# Altium integrated library Diode - TVS.IntLib: 371 symbols (part 3 of 6)
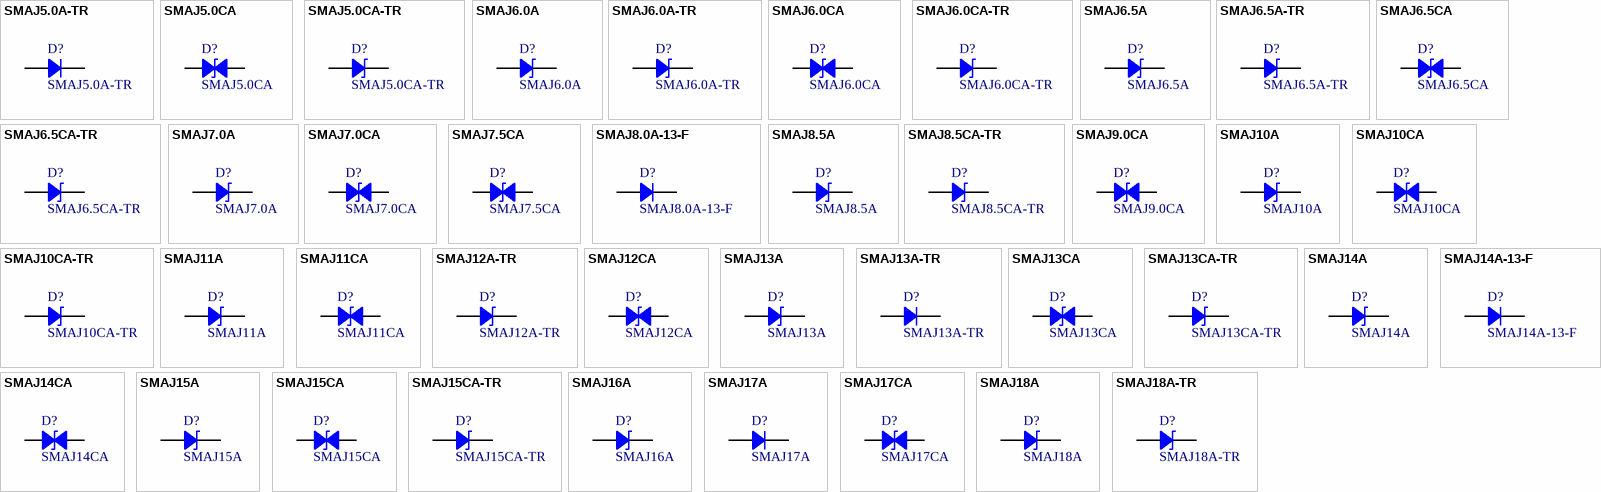
[diagram p11: symbols SMAJ5.0A-TR to SMAJ18A-TR]

## SMAJ5.0CA
designator D?
TVS DIODE 5VWM 9.2VC DO214AC; Manufacturer: Bourns Inc.; Type: Zener; Bidirectional Channels: 1; Power - Peak Pulse: 400W; Current - Peak Pulse: 43.5A; Voltage (Clamping): 9.2V; Voltage (Breakdown): 6.4V; Voltage (Reverse Standoff): 5V; Part Number: SMAJ5.0CA; PartId: 14842; Supplier 1: Digi-Key; Supplier Part Number 1: SMAJ5.0CABTR-ND; ComponentLink1Description: Datasheet; ComponentLink1URL: http://www.bourns.com/docs/Product-Datasheets/SMAJ.pdf; ComponentLink2Description: Digi-Key Listing; ComponentLink2URL: https://www.digikey.com/product-detail/en/bourns-inc/SMAJ5.0CA/SMAJ5.0CABTR-ND/2254237; Operating Temperature: -55C ~ 150C (TJ); Price: 0.0992; Device Package: DO-214AC, SMA
footprint Bourns DO214AC SMA
pins: 1, 2

## SMAJ5.0CA-TR
designator D?
TVS DIODE 5VWM 13.4VC SMA; Manufacturer: STMicroelectronics; Type: Zener; Bidirectional Channels: 1; Power - Peak Pulse: 400W; Current - Peak Pulse: 174A (8/20us); Voltage (Clamping): 13.4V; Voltage (Breakdown): 6.4V; Voltage (Reverse Standoff): 5V; Part Number: SMAJ5.0CA-TR; PartId: 14948; Supplier 1: Digi-Key; Supplier Part Number 1: 497-6508-2-ND; ComponentLink1Description: Datasheet; ComponentLink1URL: http://www2.st.com/content/ccc/resource/technical/document/datasheet/ff/c0/80/cc/19/4c/45/af/CD00001333.pdf/files/CD00001333.pdf/_jcr_content/translations/en.CD00001333.pdf; ComponentLink2Description: Digi-Key Listing; ComponentLink2URL: https://www.digikey.com/product-detail/en/stmicroelectronics/SMAJ5.0CA-TR/497-6508-2-ND/1039122; Operating Temperature: -55C ~ 150C (TJ); Price: 0.1003; Device Package: DO-214AC, SMA
footprint ST DO214AC SMA
pins: 1, 2

## SMAJ6.0A
designator D?
TVS DIODE 6VWM 10.3VC DO214AC; Manufacturer: Bourns Inc.; Type: Zener; Unidirectional Channels: 1; Power - Peak Pulse: 400W; Current - Peak Pulse: 38.8A; Voltage (Clamping): 10.3V; Voltage (Breakdown): 6.67V; Voltage (Reverse Standoff): 6V; Part Number: SMAJ6.0A; PartId: 14896; Supplier 1: Digi-Key; Supplier Part Number 1: SMAJ6.0ABTR-ND; ComponentLink1Description: Datasheet; ComponentLink1URL: http://www.bourns.com/docs/Product-Datasheets/SMAJ.pdf; ComponentLink2Description: Digi-Key Listing; ComponentLink2URL: https://www.digikey.com/product-detail/en/bourns-inc/SMAJ6.0A/SMAJ6.0ABTR-ND/2254214; Operating Temperature: -55C ~ 150C (TJ); Price: 0.0928; Device Package: DO-214AC, SMA
footprint Bourns DO214AC SMA
pins: 1, 2

## SMAJ6.0A-TR
designator D?
TVS DIODE 6VWM 13.7VC SMA; Manufacturer: STMicroelectronics; Type: Zener; Unidirectional Channels: 1; Power - Peak Pulse: 400W; Current - Peak Pulse: 170A (8/20us); Voltage (Clamping): 13.7V; Voltage (Breakdown): 6.7V; Voltage (Reverse Standoff): 6V; Part Number: SMAJ6.0A-TR; PartId: 14910; Supplier 1: Digi-Key; Supplier Part Number 1: 497-7894-2-ND; ComponentLink1Description: Datasheet; ComponentLink1URL: http://www2.st.com/content/ccc/resource/technical/document/datasheet/ff/c0/80/cc/19/4c/45/af/CD00001333.pdf/files/CD00001333.pdf/_jcr_content/translations/en.CD00001333.pdf; ComponentLink2Description: Digi-Key Listing; ComponentLink2URL: https://www.digikey.com/product-detail/en/stmicroelectronics/SMAJ6.0A-TR/497-7894-2-ND/1039123; Operating Temperature: -55C ~ 150C (TJ); Price: 0.0782; Device Package: DO-214AC, SMA
footprint ST DO214AC SMA
pins: 1, 2

## SMAJ6.0CA
designator D?
TVS DIODE 6VWM 10.3VC DO214AC; Manufacturer: Bourns Inc.; Type: Zener; Bidirectional Channels: 1; Power - Peak Pulse: 400W; Current - Peak Pulse: 38.8A; Voltage (Clamping): 10.3V; Voltage (Breakdown): 6.67V; Voltage (Reverse Standoff): 6V; Part Number: SMAJ6.0CA; PartId: 14837; Supplier 1: Digi-Key; Supplier Part Number 1: SMAJ6.0CABTR-ND; ComponentLink1Description: Datasheet; ComponentLink1URL: http://www.bourns.com/docs/Product-Datasheets/SMAJ.pdf; ComponentLink2Description: Digi-Key Listing; ComponentLink2URL: https://www.digikey.com/product-detail/en/bourns-inc/SMAJ6.0CA/SMAJ6.0CABTR-ND/2254666; Operating Temperature: -55C ~ 150C (TJ); Price: 0.0992; Device Package: DO-214AC, SMA
footprint Bourns DO214AC SMA
pins: 1, 2

## SMAJ6.0CA-TR
designator D?
TVS DIODE 6VWM 13.7VC SMA; Manufacturer: STMicroelectronics; Type: Zener; Bidirectional Channels: 1; Power - Peak Pulse: 400W; Current - Peak Pulse: 170A (8/20us); Voltage (Clamping): 13.7V; Voltage (Breakdown): 6.7V; Voltage (Reverse Standoff): 6V; Part Number: SMAJ6.0CA-TR; PartId: 14939; Supplier 1: Digi-Key; Supplier Part Number 1: 497-6510-2-ND; ComponentLink1Description: Datasheet; ComponentLink1URL: http://www2.st.com/content/ccc/resource/technical/document/datasheet/ff/c0/80/cc/19/4c/45/af/CD00001333.pdf/files/CD00001333.pdf/_jcr_content/translations/en.CD00001333.pdf; ComponentLink2Description: Digi-Key Listing; ComponentLink2URL: https://www.digikey.com/product-detail/en/stmicroelectronics/SMAJ6.0CA-TR/497-6510-2-ND/1039124; Operating Temperature: -55C ~ 150C (TJ); Price: 0.0833; Device Package: DO-214AC, SMA
footprint ST DO214AC SMA
pins: 1, 2

## SMAJ6.5A
designator D?
TVS DIODE 6.5VWM 11.2VC DO214AC; Manufacturer: Bourns Inc.; Type: Zener; Unidirectional Channels: 1; Power - Peak Pulse: 400W; Current - Peak Pulse: 35.7A; Voltage (Clamping): 11.2V; Voltage (Breakdown): 7.22V; Voltage (Reverse Standoff): 6.5V; Part Number: SMAJ6.5A; PartId: 14883; Supplier 1: Digi-Key; Supplier Part Number 1: SMAJ6.5ABTR-ND; ComponentLink1Description: Datasheet; ComponentLink1URL: http://www.bourns.com/docs/Product-Datasheets/SMAJ.pdf; ComponentLink2Description: Digi-Key Listing; ComponentLink2URL: https://www.digikey.com/product-detail/en/bourns-inc/SMAJ6.5A/SMAJ6.5ABTR-ND/2254354; Operating Temperature: -55C ~ 150C (TJ); Price: 0.0928; Device Package: DO-214AC, SMA
footprint Bourns DO214AC SMA
pins: 1, 2

## SMAJ6.5A-TR
designator D?
TVS DIODE 6.5VWM 14.5VC SMA; Manufacturer: STMicroelectronics; Type: Zener; Unidirectional Channels: 1; Power - Peak Pulse: 400W; Current - Peak Pulse: 160A (8/20us); Voltage (Clamping): 14.5V; Voltage (Breakdown): 7.2V; Voltage (Reverse Standoff): 6.5V; Part Number: SMAJ6.5A-TR; PartId: 14915; Supplier 1: Digi-Key; Supplier Part Number 1: 497-7895-2-ND; ComponentLink1Description: Datasheet; ComponentLink1URL: http://www2.st.com/content/ccc/resource/technical/document/datasheet/ff/c0/80/cc/19/4c/45/af/CD00001333.pdf/files/CD00001333.pdf/_jcr_content/translations/en.CD00001333.pdf; ComponentLink2Description: Digi-Key Listing; ComponentLink2URL: https://www.digikey.com/product-detail/en/stmicroelectronics/SMAJ6.5A-TR/497-7895-2-ND/1039125; Operating Temperature: -55C ~ 150C (TJ); Price: 0.0782; Device Package: DO-214AC, SMA
footprint ST DO214AC SMA
pins: 1, 2

## SMAJ6.5CA
designator D?
TVS DIODE 6.5VWM 11.2VC DO214AC; Manufacturer: Bourns Inc.; Type: Zener; Bidirectional Channels: 1; Power - Peak Pulse: 400W; Current - Peak Pulse: 35.7A; Voltage (Clamping): 11.2V; Voltage (Breakdown): 7.22V; Voltage (Reverse Standoff): 6.5V; Part Number: SMAJ6.5CA; PartId: 14851; Supplier 1: Digi-Key; Supplier Part Number 1: SMAJ6.5CABTR-ND; ComponentLink1Description: Datasheet; ComponentLink1URL: http://www.bourns.com/docs/Product-Datasheets/SMAJ.pdf; ComponentLink2Description: Digi-Key Listing; ComponentLink2URL: https://www.digikey.com/product-detail/en/bourns-inc/SMAJ6.5CA/SMAJ6.5CABTR-ND/2254661; Operating Temperature: -55C ~ 150C (TJ); Price: 0.0992; Device Package: DO-214AC, SMA
footprint Bourns DO214AC SMA
pins: 1, 2

## SMAJ6.5CA-TR
designator D?
TVS DIODE 6.5VWM 14.5VC SMA; Manufacturer: STMicroelectronics; Type: Zener; Bidirectional Channels: 1; Power - Peak Pulse: 400W; Current - Peak Pulse: 160A (8/20us); Voltage (Clamping): 14.5V; Voltage (Breakdown): 7.2V; Voltage (Reverse Standoff): 6.5V; Part Number: SMAJ6.5CA-TR; PartId: 14941; Supplier 1: Digi-Key; Supplier Part Number 1: 497-7896-2-ND; ComponentLink1Description: Datasheet; ComponentLink1URL: http://www2.st.com/content/ccc/resource/technical/document/datasheet/ff/c0/80/cc/19/4c/45/af/CD00001333.pdf/files/CD00001333.pdf/_jcr_content/translations/en.CD00001333.pdf; ComponentLink2Description: Digi-Key Listing; ComponentLink2URL: https://www.digikey.com/product-detail/en/stmicroelectronics/SMAJ6.5CA-TR/497-7896-2-ND/1039126; Operating Temperature: -55C ~ 150C (TJ); Price: 0.0833; Device Package: DO-214AC, SMA
footprint ST DO214AC SMA
pins: 1, 2

## SMAJ7.0A
designator D?
TVS DIODE 7VWM 12VC DO214AC; Manufacturer: Bourns Inc.; Type: Zener; Unidirectional Channels: 1; Power - Peak Pulse: 400W; Current - Peak Pulse: 33.3A; Voltage (Clamping): 12V; Voltage (Breakdown): 7.78V; Voltage (Reverse Standoff): 7V; Part Number: SMAJ7.0A; PartId: 14882; Supplier 1: Digi-Key; Supplier Part Number 1: SMAJ7.0ABTR-ND; ComponentLink1Description: Datasheet; ComponentLink1URL: http://www.bourns.com/docs/Product-Datasheets/SMAJ.pdf; ComponentLink2Description: Digi-Key Listing; ComponentLink2URL: https://www.digikey.com/product-detail/en/bourns-inc/SMAJ7.0A/SMAJ7.0ABTR-ND/2254658; Operating Temperature: -55C ~ 150C (TJ); Price: 0.0928; Device Package: DO-214AC, SMA
footprint Bourns DO214AC SMA
pins: 1, 2

## SMAJ7.0CA
designator D?
TVS DIODE 7VWM 12VC DO214AC; Manufacturer: Bourns Inc.; Type: Zener; Bidirectional Channels: 1; Power - Peak Pulse: 400W; Current - Peak Pulse: 33.3A; Voltage (Clamping): 12V; Voltage (Breakdown): 7.78V; Voltage (Reverse Standoff): 7V; Part Number: SMAJ7.0CA; PartId: 14863; Supplier 1: Digi-Key; Supplier Part Number 1: SMAJ7.0CABTR-ND; ComponentLink1Description: Datasheet; ComponentLink1URL: http://www.bourns.com/docs/Product-Datasheets/SMAJ.pdf; ComponentLink2Description: Digi-Key Listing; ComponentLink2URL: https://www.digikey.com/product-detail/en/bourns-inc/SMAJ7.0CA/SMAJ7.0CABTR-ND/2254550; Operating Temperature: -55C ~ 150C (TJ); Price: 0.0992; Device Package: DO-214AC, SMA
footprint Bourns DO214AC SMA
pins: 1, 2

## SMAJ7.5CA
designator D?
TVS DIODE 7.5VWM 12.9VC DO214AC; Manufacturer: Bourns Inc.; Type: Zener; Bidirectional Channels: 1; Power - Peak Pulse: 400W; Current - Peak Pulse: 31A; Voltage (Clamping): 12.9V; Voltage (Breakdown): 8.33V; Voltage (Reverse Standoff): 7.5V; Part Number: SMAJ7.5CA; PartId: 14844; Supplier 1: Digi-Key; Supplier Part Number 1: SMAJ7.5CABTR-ND; ComponentLink1Description: Datasheet; ComponentLink1URL: http://www.bourns.com/docs/Product-Datasheets/SMAJ.pdf; ComponentLink2Description: Digi-Key Listing; ComponentLink2URL: https://www.digikey.com/product-detail/en/bourns-inc/SMAJ7.5CA/SMAJ7.5CABTR-ND/2253431; Operating Temperature: -55C ~ 150C (TJ); Price: 0.0992; Device Package: DO-214AC, SMA
footprint Bourns DO214AC SMA
pins: 1, 2

## SMAJ8.0A-13-F
designator D?
TVS DIODE 8VWM 13.6VC SMA; Manufacturer: Diodes Incorporated; Type: Surface Mount; Power - Peak Pulse: 400W; Current - Peak Pulse: 29.4A; Voltage (Clamping): 13.6V; Voltage (Breakdown): 8.89V; Voltage (Reverse Standoff): 8V; Part Number: SMAJ8.0A-13-F; PartId: 7765; Supplier 1: Digi-Key; Supplier Part Number 1: SMAJ8.0A-13-FDITR-ND; ComponentLink1Description: Datasheet; ComponentLink1URL: http://www.diodes.com/_files/datasheets/ds19005.pdf; ComponentLink2Description: Digi-Key Listing; ComponentLink2URL: http://www.digikey.ca/product-detail/en/SMAJ8.0A-13-F/SMAJ8.0A-13-FDITR-ND/814800; Operating Temperature: -55C ~ 150C (TJ); Price: 0.1219; Device Package: DO-214AC, SMA
footprint DO214AC SMA
pins: 1, 2

## SMAJ8.5A
designator D?
TVS DIODE 8.5VWM 14.4VC DO214AC; Manufacturer: Bourns Inc.; Type: Zener; Unidirectional Channels: 1; Power - Peak Pulse: 400W; Current - Peak Pulse: 27.8A; Voltage (Clamping): 14.4V; Voltage (Breakdown): 9.44V; Voltage (Reverse Standoff): 8.5V; Part Number: SMAJ8.5A; PartId: 14906; Supplier 1: Digi-Key; Supplier Part Number 1: SMAJ8.5ABTR-ND; ComponentLink1Description: Datasheet; ComponentLink1URL: http://www.bourns.com/docs/Product-Datasheets/SMAJ.pdf; ComponentLink2Description: Digi-Key Listing; ComponentLink2URL: https://www.digikey.com/product-detail/en/bourns-inc/SMAJ8.5A/SMAJ8.5ABTR-ND/2254543; Operating Temperature: -55C ~ 150C (TJ); Price: 0.0928; Device Package: DO-214AC, SMA
footprint Bourns DO214AC SMA
pins: 1, 2

## SMAJ8.5CA-TR
designator D?
TVS DIODE 8.5VWM 19.5VC SMA; Manufacturer: STMicroelectronics; Type: Zener; Bidirectional Channels: 1; Power - Peak Pulse: 400W; Current - Peak Pulse: 124A (8/20us); Voltage (Clamping): 19.5V; Voltage (Breakdown): 9.4V; Voltage (Reverse Standoff): 8.5V; Part Number: SMAJ8.5CA-TR; PartId: 14943; Supplier 1: Digi-Key; Supplier Part Number 1: 497-15719-2-ND; ComponentLink1Description: Datasheet; ComponentLink1URL: http://www2.st.com/content/ccc/resource/technical/document/datasheet/ff/c0/80/cc/19/4c/45/af/CD00001333.pdf/files/CD00001333.pdf/_jcr_content/translations/en.CD00001333.pdf; ComponentLink2Description: Digi-Key Listing; ComponentLink2URL: https://www.digikey.com/product-detail/en/stmicroelectronics/SMAJ8.5CA-TR/497-15719-2-ND/1039127; Operating Temperature: -55C ~ 150C (TJ); Price: 0.0833; Device Package: DO-214AC, SMA
footprint ST DO214AC SMA
pins: 1, 2

## SMAJ9.0CA
designator D?
TVS DIODE 9VWM 15.4VC DO214AC; Manufacturer: Bourns Inc.; Type: Zener; Bidirectional Channels: 1; Power - Peak Pulse: 400W; Current - Peak Pulse: 26A; Voltage (Clamping): 15.4V; Voltage (Breakdown): 10V; Voltage (Reverse Standoff): 9V; Part Number: SMAJ9.0CA; PartId: 14857; Supplier 1: Digi-Key; Supplier Part Number 1: SMAJ9.0CABTR-ND; ComponentLink1Description: Datasheet; ComponentLink1URL: http://www.bourns.com/docs/Product-Datasheets/SMAJ.pdf; ComponentLink2Description: Digi-Key Listing; ComponentLink2URL: https://www.digikey.com/product-detail/en/bourns-inc/SMAJ9.0CA/SMAJ9.0CABTR-ND/2253432; Operating Temperature: -55C ~ 150C (TJ); Price: 0.0992; Device Package: DO-214AC, SMA
footprint Bourns DO214AC SMA
pins: 1, 2

## SMAJ10A
designator D?
TVS DIODE 10VWM 17VC DO214AC; Manufacturer: Bourns Inc.; Type: Zener; Unidirectional Channels: 1; Power - Peak Pulse: 400W; Current - Peak Pulse: 23.5A; Voltage (Clamping): 17V; Voltage (Breakdown): 11.1V; Voltage (Reverse Standoff): 10V; Part Number: SMAJ10A; PartId: 14890; Supplier 1: Digi-Key; Supplier Part Number 1: SMAJ10ABTR-ND; ComponentLink1Description: Datasheet; ComponentLink1URL: http://www.bourns.com/docs/Product-Datasheets/SMAJ.pdf; ComponentLink2Description: Digi-Key Listing; ComponentLink2URL: https://www.digikey.com/product-detail/en/bourns-inc/SMAJ10A/SMAJ10ABTR-ND/2254675; Operating Temperature: -55C ~ 150C (TJ); Price: 0.0928; Device Package: DO-214AC, SMA
footprint Bourns DO214AC SMA
pins: 1, 2

## SMAJ10CA
designator D?
TVS DIODE 10VWM 17VC DO214AC; Manufacturer: Bourns Inc.; Type: Zener; Bidirectional Channels: 1; Power - Peak Pulse: 400W; Current - Peak Pulse: 23.5A; Voltage (Clamping): 17V; Voltage (Breakdown): 11.1V; Voltage (Reverse Standoff): 10V; Part Number: SMAJ10CA; PartId: 14853; Supplier 1: Digi-Key; Supplier Part Number 1: SMAJ10CABTR-ND; ComponentLink1Description: Datasheet; ComponentLink1URL: http://www.bourns.com/docs/Product-Datasheets/SMAJ.pdf; ComponentLink2Description: Digi-Key Listing; ComponentLink2URL: https://www.digikey.com/product-detail/en/bourns-inc/SMAJ10CA/SMAJ10CABTR-ND/2254677; Operating Temperature: -55C ~ 150C (TJ); Price: 0.0992; Device Package: DO-214AC, SMA
footprint Bourns DO214AC SMA
pins: 1, 2

## SMAJ10CA-TR
designator D?
TVS DIODE 10VWM 21.7VC SMA; Manufacturer: STMicroelectronics; Type: Zener; Bidirectional Channels: 1; Power - Peak Pulse: 400W; Current - Peak Pulse: 106A (8/20us); Voltage (Clamping): 21.7V; Voltage (Breakdown): 11.1V; Voltage (Reverse Standoff): 10V; Part Number: SMAJ10CA-TR; PartId: 14934; Supplier 1: Digi-Key; Supplier Part Number 1: 497-14167-2-ND; ComponentLink1Description: Datasheet; ComponentLink1URL: http://www2.st.com/content/ccc/resource/technical/document/datasheet/ff/c0/80/cc/19/4c/45/af/CD00001333.pdf/files/CD00001333.pdf/_jcr_content/translations/en.CD00001333.pdf; ComponentLink2Description: Digi-Key Listing; ComponentLink2URL: https://www.digikey.com/product-detail/en/stmicroelectronics/SMAJ10CA-TR/497-14167-2-ND/1039100; Operating Temperature: -55C ~ 150C (TJ); Price: 0.0833; Device Package: DO-214AC, SMA
footprint ST DO214AC SMA
pins: 1, 2

## SMAJ11A
designator D?
TVS DIODE 11VWM 18.2VC DO214AC; Manufacturer: Bourns Inc.; Type: Zener; Unidirectional Channels: 1; Power - Peak Pulse: 400W; Current - Peak Pulse: 22A; Voltage (Clamping): 18.2V; Voltage (Breakdown): 12.2V; Voltage (Reverse Standoff): 11V; Part Number: SMAJ11A; PartId: 14878; Supplier 1: Digi-Key; Supplier Part Number 1: SMAJ11ABTR-ND; ComponentLink1Description: Datasheet; ComponentLink1URL: http://www.bourns.com/docs/Product-Datasheets/SMAJ.pdf; ComponentLink2Description: Digi-Key Listing; ComponentLink2URL: https://www.digikey.com/product-detail/en/bourns-inc/SMAJ11A/SMAJ11ABTR-ND/2254678; Operating Temperature: -55C ~ 150C (TJ); Price: 0.0928; Device Package: DO-214AC, SMA
footprint Bourns DO214AC SMA
pins: 1, 2

## SMAJ11CA
designator D?
TVS DIODE 11VWM 18.2VC DO214AC; Manufacturer: Bourns Inc.; Type: Zener; Bidirectional Channels: 1; Power - Peak Pulse: 400W; Current - Peak Pulse: 22A; Voltage (Clamping): 18.2V; Voltage (Breakdown): 12.2V; Voltage (Reverse Standoff): 11V; Part Number: SMAJ11CA; PartId: 14865; Supplier 1: Digi-Key; Supplier Part Number 1: SMAJ11CABTR-ND; ComponentLink1Description: Datasheet; ComponentLink1URL: http://www.bourns.com/docs/Product-Datasheets/SMAJ.pdf; ComponentLink2Description: Digi-Key Listing; ComponentLink2URL: https://www.digikey.com/product-detail/en/bourns-inc/SMAJ11CA/SMAJ11CABTR-ND/2254681; Operating Temperature: -55C ~ 150C (TJ); Price: 0.0992; Device Package: DO-214AC, SMA
footprint Bourns DO214AC SMA
pins: 1, 2

## SMAJ12A-TR
designator D?
TVS DIODE 12VWM 25.3VC SMA; Manufacturer: STMicroelectronics; Type: Zener; Unidirectional Channels: 1; Power - Peak Pulse: 400W; Current - Peak Pulse: 91A (8/20us); Voltage (Clamping): 25.3V; Voltage (Breakdown): 13.3V; Voltage (Reverse Standoff): 12V; Part Number: SMAJ12A-TR; PartId: 14909; Supplier 1: Digi-Key; Supplier Part Number 1: 497-6503-2-ND; ComponentLink1Description: Datasheet; ComponentLink1URL: http://www2.st.com/content/ccc/resource/technical/document/datasheet/ff/c0/80/cc/19/4c/45/af/CD00001333.pdf/files/CD00001333.pdf/_jcr_content/translations/en.CD00001333.pdf; ComponentLink2Description: Digi-Key Listing; ComponentLink2URL: https://www.digikey.com/product-detail/en/stmicroelectronics/SMAJ12A-TR/497-6503-2-ND/1039101; Operating Temperature: -55C ~ 150C (TJ); Price: 0.0782; Device Package: DO-214AC, SMA
footprint ST DO214AC SMA
pins: 1, 2

## SMAJ12CA
designator D?
TVS DIODE 12VWM 19.9VC DO214AC; Manufacturer: Bourns Inc.; Type: Zener; Bidirectional Channels: 1; Power - Peak Pulse: 400W; Current - Peak Pulse: 20.1A; Voltage (Clamping): 19.9V; Voltage (Breakdown): 13.3V; Voltage (Reverse Standoff): 12V; Part Number: SMAJ12CA; PartId: 14843; Supplier 1: Digi-Key; Supplier Part Number 1: SMAJ12CABTR-ND; ComponentLink1Description: Datasheet; ComponentLink1URL: http://www.bourns.com/docs/Product-Datasheets/SMAJ.pdf; ComponentLink2Description: Digi-Key Listing; ComponentLink2URL: https://www.digikey.com/product-detail/en/bourns-inc/SMAJ12CA/SMAJ12CABTR-ND/2254385; Operating Temperature: -55C ~ 150C (TJ); Price: 0.0992; Device Package: DO-214AC, SMA
footprint Bourns DO214AC SMA
pins: 1, 2

## SMAJ13A
designator D?
TVS DIODE 13VWM 21.5VC DO214AC; Manufacturer: Bourns Inc.; Type: Zener; Unidirectional Channels: 1; Power - Peak Pulse: 400W; Current - Peak Pulse: 18.6A; Voltage (Clamping): 21.5V; Voltage (Breakdown): 14.4V; Voltage (Reverse Standoff): 13V; Part Number: SMAJ13A; PartId: 14891; Supplier 1: Digi-Key; Supplier Part Number 1: SMAJ13ABTR-ND; ComponentLink1Description: Datasheet; ComponentLink1URL: http://www.bourns.com/docs/Product-Datasheets/SMAJ.pdf; ComponentLink2Description: Digi-Key Listing; ComponentLink2URL: https://www.digikey.com/product-detail/en/bourns-inc/SMAJ13A/SMAJ13ABTR-ND/2254693; Operating Temperature: -55C ~ 150C (TJ); Price: 0.0928; Device Package: DO-214AC, SMA
footprint Bourns DO214AC SMA
pins: 1, 2

## SMAJ13A-TR
designator D?
TVS DIODE 13VWM 27.2VC SMA; Manufacturer: STMicroelectronics; Type: Surface Mount; Power - Peak Pulse: 400W; Current - Peak Pulse: 85A (8/20us); Voltage (Clamping): 27.2V; Voltage (Breakdown): 14.4V; Voltage (Reverse Standoff): 13V; Part Number: SMAJ13A-TR; PartId: 7769; Supplier 1: Digi-Key; Supplier Part Number 1: 497-12776-2-ND; ComponentLink1Description: Datasheet; ComponentLink1URL: http://www.st.com/web/en/resource/technical/document/datasheet/CD00001333.pdf; ComponentLink2Description: Digi-Key Listing; ComponentLink2URL: http://www.digikey.ca/product-detail/en/SMAJ13A-TR/497-12776-2-ND/1039103; Operating Temperature: -55C ~ 150C (TJ); Price: 0.1146; Device Package: DO-214AC, SMA
footprint DO214AC SMA
pins: 1, 2

## SMAJ13CA
designator D?
TVS DIODE 13VWM 21.5VC DO214AC; Manufacturer: Bourns Inc.; Type: Zener; Bidirectional Channels: 1; Power - Peak Pulse: 400W; Current - Peak Pulse: 18.6A; Voltage (Clamping): 21.5V; Voltage (Breakdown): 14.4V; Voltage (Reverse Standoff): 13V; Part Number: SMAJ13CA; PartId: 14864; Supplier 1: Digi-Key; Supplier Part Number 1: SMAJ13CABTR-ND; ComponentLink1Description: Datasheet; ComponentLink1URL: http://www.bourns.com/docs/Product-Datasheets/SMAJ.pdf; ComponentLink2Description: Digi-Key Listing; ComponentLink2URL: https://www.digikey.com/product-detail/en/bourns-inc/SMAJ13CA/SMAJ13CABTR-ND/2254381; Operating Temperature: -55C ~ 150C (TJ); Price: 0.0992; Device Package: DO-214AC, SMA
footprint Bourns DO214AC SMA
pins: 1, 2

## SMAJ13CA-TR
designator D?
TVS DIODE 13VWM 27.2VC SMA; Manufacturer: STMicroelectronics; Type: Zener; Bidirectional Channels: 1; Power - Peak Pulse: 400W; Current - Peak Pulse: 85A (8/20us); Voltage (Clamping): 27.2V; Voltage (Breakdown): 14.4V; Voltage (Reverse Standoff): 13V; Part Number: SMAJ13CA-TR; PartId: 14936; Supplier 1: Digi-Key; Supplier Part Number 1: 497-7890-2-ND; ComponentLink1Description: Datasheet; ComponentLink1URL: http://www2.st.com/content/ccc/resource/technical/document/datasheet/ff/c0/80/cc/19/4c/45/af/CD00001333.pdf/files/CD00001333.pdf/_jcr_content/translations/en.CD00001333.pdf; ComponentLink2Description: Digi-Key Listing; ComponentLink2URL: https://www.digikey.com/product-detail/en/stmicroelectronics/SMAJ13CA-TR/497-7890-2-ND/1039104; Operating Temperature: -55C ~ 150C (TJ); Price: 0.0833; Device Package: DO-214AC, SMA
footprint ST DO214AC SMA
pins: 1, 2

## SMAJ14A
designator D?
TVS DIODE 14VWM 23.2VC DO214AC; Manufacturer: Bourns Inc.; Type: Zener; Unidirectional Channels: 1; Power - Peak Pulse: 400W; Current - Peak Pulse: 17.2A; Voltage (Clamping): 23.2V; Voltage (Breakdown): 15.6V; Voltage (Reverse Standoff): 14V; Part Number: SMAJ14A; PartId: 14876; Supplier 1: Digi-Key; Supplier Part Number 1: SMAJ14ABTR-ND; ComponentLink1Description: Datasheet; ComponentLink1URL: http://www.bourns.com/docs/Product-Datasheets/SMAJ.pdf; ComponentLink2Description: Digi-Key Listing; ComponentLink2URL: https://www.digikey.com/product-detail/en/bourns-inc/SMAJ14A/SMAJ14ABTR-ND/2254680; Operating Temperature: -55C ~ 150C (TJ); Price: 0.0928; Device Package: DO-214AC, SMA
footprint Bourns DO214AC SMA
pins: 1, 2

## SMAJ14A-13-F
designator D?
TVS DIODE 14VWM 23.2VC SMA; Manufacturer: Diodes Incorporated; Type: Surface Mount; Power - Peak Pulse: 400W; Current - Peak Pulse: 17.2A; Voltage (Clamping): 23.2V; Voltage (Breakdown): 15.6V; Voltage (Reverse Standoff): 14V; Part Number: SMAJ14A-13-F; PartId: 7770; Supplier 1: Digi-Key; Supplier Part Number 1: SMAJ14A-FDITR-ND; ComponentLink1Description: Datasheet; ComponentLink1URL: http://www.diodes.com/_files/datasheets/ds19005.pdf; ComponentLink2Description: Digi-Key Listing; ComponentLink2URL: http://www.digikey.ca/product-detail/en/SMAJ14A-13-F/SMAJ14A-FDITR-ND/768796; Operating Temperature: -55C ~ 150C (TJ); Price: 0.1219; Device Package: DO-214AC, SMA
footprint DO214AC SMA
pins: 1, 2

## SMAJ14CA
designator D?
TVS DIODE 14VWM 23.2VC DO214AC; Manufacturer: Bourns Inc.; Type: Zener; Bidirectional Channels: 1; Power - Peak Pulse: 400W; Current - Peak Pulse: 17.2A; Voltage (Clamping): 23.2V; Voltage (Breakdown): 15.6V; Voltage (Reverse Standoff): 14V; Part Number: SMAJ14CA; PartId: 14852; Supplier 1: Digi-Key; Supplier Part Number 1: SMAJ14CABTR-ND; ComponentLink1Description: Datasheet; ComponentLink1URL: http://www.bourns.com/docs/Product-Datasheets/SMAJ.pdf; ComponentLink2Description: Digi-Key Listing; ComponentLink2URL: https://www.digikey.com/product-detail/en/bourns-inc/SMAJ14CA/SMAJ14CABTR-ND/2254616; Operating Temperature: -55C ~ 150C (TJ); Price: 0.0992; Device Package: DO-214AC, SMA
footprint Bourns DO214AC SMA
pins: 1, 2

## SMAJ15A
designator D?
TVS DIODE 15VWM 24.4VC DO214AC; Manufacturer: Bourns Inc.; Type: Zener; Unidirectional Channels: 1; Power - Peak Pulse: 400W; Current - Peak Pulse: 16.4A; Voltage (Clamping): 24.4V; Voltage (Breakdown): 16.7V; Voltage (Reverse Standoff): 15V; Part Number: SMAJ15A; PartId: 14895; Supplier 1: Digi-Key; Supplier Part Number 1: SMAJ15ABTR-ND; ComponentLink1Description: Datasheet; ComponentLink1URL: http://www.bourns.com/docs/Product-Datasheets/SMAJ.pdf; ComponentLink2Description: Digi-Key Listing; ComponentLink2URL: https://www.digikey.com/product-detail/en/bourns-inc/SMAJ15A/SMAJ15ABTR-ND/2254246; Operating Temperature: -55C ~ 150C (TJ); Price: 0.0928; Device Package: DO-214AC, SMA
footprint Bourns DO214AC SMA
pins: 1, 2

## SMAJ15CA
designator D?
TVS DIODE 15VWM 24.4VC DO214AC; Manufacturer: Bourns Inc.; Type: Zener; Bidirectional Channels: 1; Power - Peak Pulse: 400W; Current - Peak Pulse: 16.4A; Voltage (Clamping): 24.4V; Voltage (Breakdown): 16.7V; Voltage (Reverse Standoff): 15V; Part Number: SMAJ15CA; PartId: 14840; Supplier 1: Digi-Key; Supplier Part Number 1: SMAJ15CABTR-ND; ComponentLink1Description: Datasheet; ComponentLink1URL: http://www.bourns.com/docs/Product-Datasheets/SMAJ.pdf; ComponentLink2Description: Digi-Key Listing; ComponentLink2URL: https://www.digikey.com/product-detail/en/bourns-inc/SMAJ15CA/SMAJ15CABTR-ND/2254300; Operating Temperature: -55C ~ 150C (TJ); Price: 0.0992; Device Package: DO-214AC, SMA
footprint Bourns DO214AC SMA
pins: 1, 2

## SMAJ15CA-TR
designator D?
TVS DIODE 15VWM 32.5VC DO214AC; Manufacturer: STMicroelectronics; Type: Zener; Bidirectional Channels: 1; Power - Peak Pulse: 400W; Current - Peak Pulse: 71A (8/20us); Voltage (Clamping): 32.5V; Voltage (Breakdown): 16.7V; Voltage (Reverse Standoff): 15V; Part Number: SMAJ15CA-TR; PartId: 14938; Supplier 1: Digi-Key; Supplier Part Number 1: 497-2997-2-ND; ComponentLink1Description: Datasheet; ComponentLink1URL: http://www2.st.com/content/ccc/resource/technical/document/datasheet/ff/c0/80/cc/19/4c/45/af/CD00001333.pdf/files/CD00001333.pdf/_jcr_content/translations/en.CD00001333.pdf; ComponentLink2Description: Digi-Key Listing; ComponentLink2URL: https://www.digikey.com/product-detail/en/stmicroelectronics/SMAJ15CA-TR/497-2997-2-ND/634761; Operating Temperature: -55C ~ 150C (TJ); Price: 0.0833; Device Package: DO-214AC, SMA
footprint ST DO214AC SMA
pins: 1, 2

## SMAJ16A
designator D?
TVS DIODE 16VWM 26VC DO214AC; Manufacturer: Bourns Inc.; Type: Zener; Unidirectional Channels: 1; Power - Peak Pulse: 400W; Current - Peak Pulse: 15.3A; Voltage (Clamping): 26V; Voltage (Breakdown): 17.8V; Voltage (Reverse Standoff): 16V; Part Number: SMAJ16A; PartId: 14892; Supplier 1: Digi-Key; Supplier Part Number 1: SMAJ16ABTR-ND; ComponentLink1Description: Datasheet; ComponentLink1URL: http://www.bourns.com/docs/Product-Datasheets/SMAJ.pdf; ComponentLink2Description: Digi-Key Listing; ComponentLink2URL: https://www.digikey.com/product-detail/en/bourns-inc/SMAJ16A/SMAJ16ABTR-ND/2254736; Operating Temperature: -55C ~ 150C (TJ); Price: 0.0928; Device Package: DO-214AC, SMA
footprint Bourns DO214AC SMA
pins: 1, 2

## SMAJ17A
designator D?
TVS DIODE 17VWM 27.6VC SMA; Manufacturer: Littelfuse Inc.; Type: Surface Mount; Power - Peak Pulse: 400W; Current - Peak Pulse: 14.5A; Voltage (Clamping): 27.6V; Voltage (Breakdown): 18.9V; Voltage (Reverse Standoff): 17V; Part Number: SMAJ17A; PartId: 7778; Supplier 1: Digi-Key; Supplier Part Number 1: SMAJ17ALFTR-ND; ComponentLink1Description: Datasheet; ComponentLink1URL: http://www.littelfuse.com/~/media/electronics/datasheets/tvs_diodes/littelfuse_tvs_diode_smaj_datasheet.pdf.pdf; ComponentLink2Description: Digi-Key Listing; ComponentLink2URL: http://www.digikey.ca/product-detail/en/SMAJ17A/SMAJ17ALFTR-ND/762280; Operating Temperature: -55C ~ 150C (TJ); Price: 0.1626; Device Package: DO-214AC, SMA
footprint DO214AC SMA
pins: 1, 2

## SMAJ17CA
designator D?
TVS DIODE 17VWM 27.6VC DO214AC; Manufacturer: Bourns Inc.; Type: Zener; Bidirectional Channels: 1; Power - Peak Pulse: 400W; Current - Peak Pulse: 14.5A; Voltage (Clamping): 27.6V; Voltage (Breakdown): 18.9V; Voltage (Reverse Standoff): 17V; Part Number: SMAJ17CA; PartId: 14870; Supplier 1: Digi-Key; Supplier Part Number 1: SMAJ17CABTR-ND; ComponentLink1Description: Datasheet; ComponentLink1URL: http://www.bourns.com/docs/Product-Datasheets/SMAJ.pdf; ComponentLink2Description: Digi-Key Listing; ComponentLink2URL: https://www.digikey.com/product-detail/en/bourns-inc/SMAJ17CA/SMAJ17CABTR-ND/2254613; Operating Temperature: -55C ~ 150C (TJ); Price: 0.0992; Device Package: DO-214AC, SMA
footprint Bourns DO214AC SMA
pins: 1, 2

## SMAJ18A
designator D?
TVS DIODE 18VWM 29.2VC DO214AC; Manufacturer: Bourns Inc.; Type: Zener; Unidirectional Channels: 1; Power - Peak Pulse: 400W; Current - Peak Pulse: 13.7A; Voltage (Clamping): 29.2V; Voltage (Breakdown): 20V; Voltage (Reverse Standoff): 18V; Part Number: SMAJ18A; PartId: 14875; Supplier 1: Digi-Key; Supplier Part Number 1: SMAJ18ABTR-ND; ComponentLink1Description: Datasheet; ComponentLink1URL: http://www.bourns.com/docs/Product-Datasheets/SMAJ.pdf; ComponentLink2Description: Digi-Key Listing; ComponentLink2URL: https://www.digikey.com/product-detail/en/bourns-inc/SMAJ18A/SMAJ18ABTR-ND/2254618; Operating Temperature: -55C ~ 150C (TJ); Price: 0.0928; Device Package: DO-214AC, SMA
footprint Bourns DO214AC SMA
pins: 1, 2

## SMAJ18A-TR
designator D?
TVS DIODE 18VWM 39.3VC SMA; Manufacturer: STMicroelectronics; Type: Zener; Unidirectional Channels: 1; Power - Peak Pulse: 400W; Current - Peak Pulse: 59A (8/20us); Voltage (Clamping): 39.3V; Voltage (Breakdown): 20V; Voltage (Reverse Standoff): 18V; Part Number: SMAJ18A-TR; PartId: 14912; Supplier 1: Digi-Key; Supplier Part Number 1: 497-7892-2-ND; ComponentLink1Description: Datasheet; ComponentLink1URL: http://www2.st.com/content/ccc/resource/technical/document/datasheet/ff/c0/80/cc/19/4c/45/af/CD00001333.pdf/files/CD00001333.pdf/_jcr_content/translations/en.CD00001333.pdf; ComponentLink2Description: Digi-Key Listing; ComponentLink2URL: https://www.digikey.com/product-detail/en/stmicroelectronics/SMAJ18A-TR/497-7892-2-ND/1039110; Operating Temperature: -55C ~ 150C (TJ); Price: 0.0782; Device Package: DO-214AC, SMA
footprint ST DO214AC SMA
pins: 1, 2

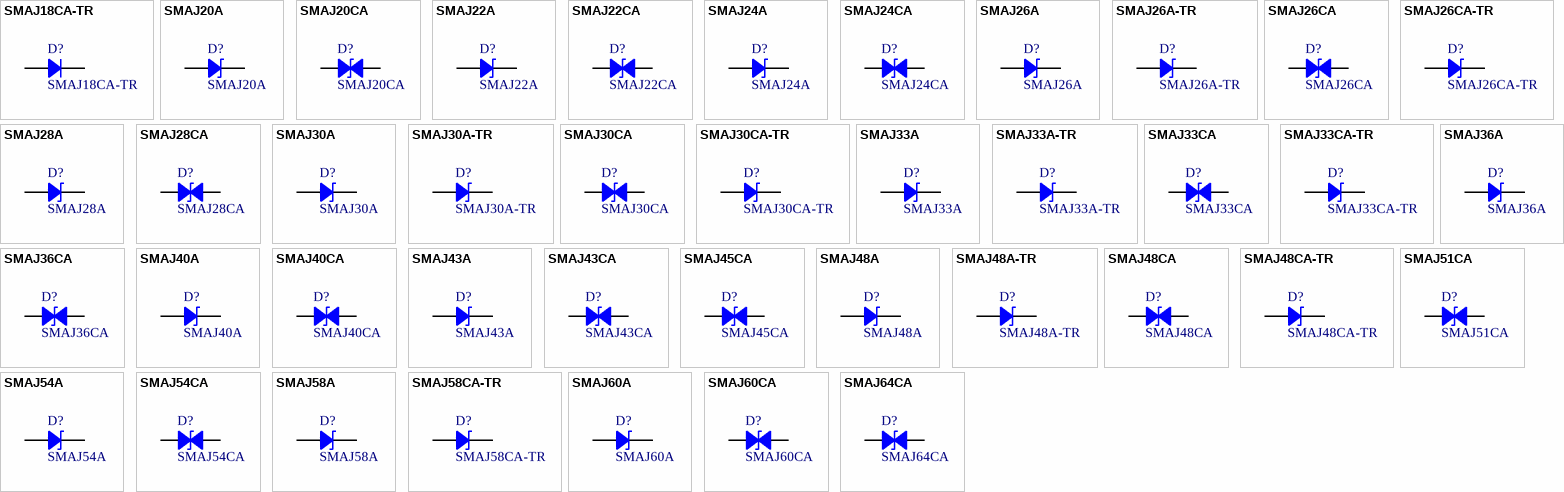
[diagram p4: symbols SMAJ18CA-TR to SMAJ64CA]

## SMAJ18CA-TR
designator D?
TVS DIODE 18VWM 39.3VC SMA; Manufacturer: STMicroelectronics; Type: Surface Mount; Power - Peak Pulse: 400W; Current - Peak Pulse: 59A (8/20us); Voltage (Clamping): 39.3V; Voltage (Breakdown): 20V; Voltage (Reverse Standoff): 18V; Part Number: SMAJ18CA-TR; PartId: 7777; Supplier 1: Digi-Key; Supplier Part Number 1: 497-7446-2-ND; ComponentLink1Description: Datasheet; ComponentLink1URL: http://www.st.com/web/en/resource/technical/document/datasheet/CD00001333.pdf; ComponentLink2Description: Digi-Key Listing; ComponentLink2URL: http://www.digikey.ca/product-detail/en/SMAJ18CA-TR/497-7446-2-ND/1039111; Operating Temperature: -55C ~ 150C (TJ); Price: 0.1194; Device Package: DO-214AC, SMA
footprint DO214AC SMA
pins: 1, 2

## SMAJ20A
designator D?
TVS DIODE 20VWM 32.4VC DO214AC; Manufacturer: Bourns Inc.; Type: Zener; Unidirectional Channels: 1; Power - Peak Pulse: 400W; Current - Peak Pulse: 12.3A; Voltage (Clamping): 32.4V; Voltage (Breakdown): 22.2V; Voltage (Reverse Standoff): 20V; Part Number: SMAJ20A; PartId: 14888; Supplier 1: Digi-Key; Supplier Part Number 1: SMAJ20ABTR-ND; ComponentLink1Description: Datasheet; ComponentLink1URL: http://www.bourns.com/docs/Product-Datasheets/SMAJ.pdf; ComponentLink2Description: Digi-Key Listing; ComponentLink2URL: https://www.digikey.com/product-detail/en/bourns-inc/SMAJ20A/SMAJ20ABTR-ND/2254679; Operating Temperature: -55C ~ 150C (TJ); Price: 0.0928; Device Package: DO-214AC, SMA
footprint Bourns DO214AC SMA
pins: 1, 2

## SMAJ20CA
designator D?
TVS DIODE 20VWM 32.4VC DO214AC; Manufacturer: Bourns Inc.; Type: Zener; Bidirectional Channels: 1; Power - Peak Pulse: 400W; Current - Peak Pulse: 12.3A; Voltage (Clamping): 32.4V; Voltage (Breakdown): 22.2V; Voltage (Reverse Standoff): 20V; Part Number: SMAJ20CA; PartId: 14854; Supplier 1: Digi-Key; Supplier Part Number 1: SMAJ20CABTR-ND; ComponentLink1Description: Datasheet; ComponentLink1URL: http://www.bourns.com/docs/Product-Datasheets/SMAJ.pdf; ComponentLink2Description: Digi-Key Listing; ComponentLink2URL: https://www.digikey.com/product-detail/en/bourns-inc/SMAJ20CA/SMAJ20CABTR-ND/2254672; Operating Temperature: -55C ~ 150C (TJ); Price: 0.0992; Device Package: DO-214AC, SMA
footprint Bourns DO214AC SMA
pins: 1, 2

## SMAJ22A
designator D?
TVS DIODE 22VWM 35.5VC DO214AC; Manufacturer: Bourns Inc.; Type: Zener; Unidirectional Channels: 1; Power - Peak Pulse: 400W; Current - Peak Pulse: 11.3A; Voltage (Clamping): 35.5V; Voltage (Breakdown): 24.4V; Voltage (Reverse Standoff): 22V; Part Number: SMAJ22A; PartId: 14889; Supplier 1: Digi-Key; Supplier Part Number 1: SMAJ22ABTR-ND; ComponentLink1Description: Datasheet; ComponentLink1URL: http://www.bourns.com/docs/Product-Datasheets/SMAJ.pdf; ComponentLink2Description: Digi-Key Listing; ComponentLink2URL: https://www.digikey.com/product-detail/en/bourns-inc/SMAJ22A/SMAJ22ABTR-ND/2254620; Operating Temperature: -55C ~ 150C (TJ); Price: 0.0928; Device Package: DO-214AC, SMA
footprint Bourns DO214AC SMA
pins: 1, 2

## SMAJ22CA
designator D?
TVS DIODE 22VWM 35.5VC DO214AC; Manufacturer: Bourns Inc.; Type: Zener; Bidirectional Channels: 1; Power - Peak Pulse: 400W; Current - Peak Pulse: 11.3A; Voltage (Clamping): 35.5V; Voltage (Breakdown): 24.4V; Voltage (Reverse Standoff): 22V; Part Number: SMAJ22CA; PartId: 14871; Supplier 1: Digi-Key; Supplier Part Number 1: SMAJ22CABTR-ND; ComponentLink1Description: Datasheet; ComponentLink1URL: http://www.bourns.com/docs/Product-Datasheets/SMAJ.pdf; ComponentLink2Description: Digi-Key Listing; ComponentLink2URL: https://www.digikey.com/product-detail/en/bourns-inc/SMAJ22CA/SMAJ22CABTR-ND/2254619; Operating Temperature: -55C ~ 150C (TJ); Price: 0.0992; Device Package: DO-214AC, SMA
footprint Bourns DO214AC SMA
pins: 1, 2

## SMAJ24A
designator D?
TVS DIODE 24VWM 38.9VC DO214AC; Manufacturer: Bourns Inc.; Type: Zener; Unidirectional Channels: 1; Power - Peak Pulse: 400W; Current - Peak Pulse: 10.3A; Voltage (Clamping): 38.9V; Voltage (Breakdown): 26.7V; Voltage (Reverse Standoff): 24V; Part Number: SMAJ24A; PartId: 14893; Supplier 1: Digi-Key; Supplier Part Number 1: SMAJ24ABTR-ND; ComponentLink1Description: Datasheet; ComponentLink1URL: http://www.bourns.com/docs/Product-Datasheets/SMAJ.pdf; ComponentLink2Description: Digi-Key Listing; ComponentLink2URL: https://www.digikey.com/product-detail/en/bourns-inc/SMAJ24A/SMAJ24ABTR-ND/2254622; Operating Temperature: -55C ~ 150C (TJ); Price: 0.0928; Device Package: DO-214AC, SMA
footprint Bourns DO214AC SMA
pins: 1, 2

## SMAJ24CA
designator D?
TVS DIODE 24VWM 38.9VC DO214AC; Manufacturer: Bourns Inc.; Type: Zener; Bidirectional Channels: 1; Power - Peak Pulse: 400W; Current - Peak Pulse: 10.3A; Voltage (Clamping): 38.9V; Voltage (Breakdown): 26.7V; Voltage (Reverse Standoff): 24V; Part Number: SMAJ24CA; PartId: 14841; Supplier 1: Digi-Key; Supplier Part Number 1: SMAJ24CABTR-ND; ComponentLink1Description: Datasheet; ComponentLink1URL: http://www.bourns.com/docs/Product-Datasheets/SMAJ.pdf; ComponentLink2Description: Digi-Key Listing; ComponentLink2URL: https://www.digikey.com/product-detail/en/bourns-inc/SMAJ24CA/SMAJ24CABTR-ND/2254533; Operating Temperature: -55C ~ 150C (TJ); Price: 0.0992; Device Package: DO-214AC, SMA
footprint Bourns DO214AC SMA
pins: 1, 2

## SMAJ26A
designator D?
TVS DIODE 26VWM 42.1VC DO214AC; Manufacturer: Bourns Inc.; Type: Zener; Unidirectional Channels: 1; Power - Peak Pulse: 400W; Current - Peak Pulse: 9.5A; Voltage (Clamping): 42.1V; Voltage (Breakdown): 28.9V; Voltage (Reverse Standoff): 26V; Part Number: SMAJ26A; PartId: 14877; Supplier 1: Digi-Key; Supplier Part Number 1: SMAJ26ABTR-ND; ComponentLink1Description: Datasheet; ComponentLink1URL: http://www.bourns.com/docs/Product-Datasheets/SMAJ.pdf; ComponentLink2Description: Digi-Key Listing; ComponentLink2URL: https://www.digikey.com/product-detail/en/bourns-inc/SMAJ26A/SMAJ26ABTR-ND/2254571; Operating Temperature: -55C ~ 150C (TJ); Price: 0.0928; Device Package: DO-214AC, SMA
footprint Bourns DO214AC SMA
pins: 1, 2

## SMAJ26A-TR
designator D?
TVS DIODE 26VWM 53.5VC SMA; Manufacturer: STMicroelectronics; Type: Zener; Unidirectional Channels: 1; Power - Peak Pulse: 400W; Current - Peak Pulse: 43A (8/20us); Voltage (Clamping): 53.5V; Voltage (Breakdown): 28.9V; Voltage (Reverse Standoff): 26V; Part Number: SMAJ26A-TR; PartId: 14913; Supplier 1: Digi-Key; Supplier Part Number 1: 497-15656-2-ND; ComponentLink1Description: Datasheet; ComponentLink1URL: http://www2.st.com/content/ccc/resource/technical/document/datasheet/ff/c0/80/cc/19/4c/45/af/CD00001333.pdf/files/CD00001333.pdf/_jcr_content/translations/en.CD00001333.pdf; ComponentLink2Description: Digi-Key Listing; ComponentLink2URL: https://www.digikey.com/product-detail/en/stmicroelectronics/SMAJ26A-TR/497-15656-2-ND/1039113; Operating Temperature: -55C ~ 150C (TJ); Price: 0.0782; Device Package: DO-214AC, SMA
footprint ST DO214AC SMA
pins: 1, 2

## SMAJ26CA
designator D?
TVS DIODE 26VWM 42.1VC DO214AC; Manufacturer: Bourns Inc.; Type: Zener; Bidirectional Channels: 1; Power - Peak Pulse: 400W; Current - Peak Pulse: 9.5A; Voltage (Clamping): 42.1V; Voltage (Breakdown): 28.9V; Voltage (Reverse Standoff): 26V; Part Number: SMAJ26CA; PartId: 14848; Supplier 1: Digi-Key; Supplier Part Number 1: SMAJ26CABTR-ND; ComponentLink1Description: Datasheet; ComponentLink1URL: http://www.bourns.com/docs/Product-Datasheets/SMAJ.pdf; ComponentLink2Description: Digi-Key Listing; ComponentLink2URL: https://www.digikey.com/product-detail/en/bourns-inc/SMAJ26CA/SMAJ26CABTR-ND/2254576; Operating Temperature: -55C ~ 150C (TJ); Price: 0.0992; Device Package: DO-214AC, SMA
footprint Bourns DO214AC SMA
pins: 1, 2

## SMAJ26CA-TR
designator D?
TVS DIODE 26VWM 53.5VC SMA; Manufacturer: STMicroelectronics; Type: Zener; Bidirectional Channels: 1; Power - Peak Pulse: 400W; Current - Peak Pulse: 43A (8/20us); Voltage (Clamping): 53.5V; Voltage (Breakdown): 28.9V; Voltage (Reverse Standoff): 26V; Part Number: SMAJ26CA-TR; PartId: 14942; Supplier 1: Digi-Key; Supplier Part Number 1: 497-12523-2-ND; ComponentLink1Description: Datasheet; ComponentLink1URL: http://www2.st.com/content/ccc/resource/technical/document/datasheet/ff/c0/80/cc/19/4c/45/af/CD00001333.pdf/files/CD00001333.pdf/_jcr_content/translations/en.CD00001333.pdf; ComponentLink2Description: Digi-Key Listing; ComponentLink2URL: https://www.digikey.com/product-detail/en/stmicroelectronics/SMAJ26CA-TR/497-12523-2-ND/2214530; Operating Temperature: -55C ~ 150C (TJ); Price: 0.0833; Device Package: DO-214AC, SMA
footprint ST DO214AC SMA
pins: 1, 2

## SMAJ28A
designator D?
TVS DIODE 28VWM 45.4VC DO214AC; Manufacturer: Bourns Inc.; Type: Zener; Unidirectional Channels: 1; Power - Peak Pulse: 400W; Current - Peak Pulse: 8.8A; Voltage (Clamping): 45.4V; Voltage (Breakdown): 31.1V; Voltage (Reverse Standoff): 28V; Part Number: SMAJ28A; PartId: 14874; Supplier 1: Digi-Key; Supplier Part Number 1: SMAJ28ABTR-ND; ComponentLink1Description: Datasheet; ComponentLink1URL: http://www.bourns.com/docs/Product-Datasheets/SMAJ.pdf; ComponentLink2Description: Digi-Key Listing; ComponentLink2URL: https://www.digikey.com/product-detail/en/bourns-inc/SMAJ28A/SMAJ28ABTR-ND/2254580; Operating Temperature: -55C ~ 150C (TJ); Price: 0.0928; Device Package: DO-214AC, SMA
footprint Bourns DO214AC SMA
pins: 1, 2

## SMAJ28CA
designator D?
TVS DIODE 28VWM 45.4VC DO214AC; Manufacturer: Bourns Inc.; Type: Zener; Bidirectional Channels: 1; Power - Peak Pulse: 400W; Current - Peak Pulse: 8.8A; Voltage (Clamping): 45.4V; Voltage (Breakdown): 31.1V; Voltage (Reverse Standoff): 28V; Part Number: SMAJ28CA; PartId: 14836; Supplier 1: Digi-Key; Supplier Part Number 1: SMAJ28CABTR-ND; ComponentLink1Description: Datasheet; ComponentLink1URL: http://www.bourns.com/docs/Product-Datasheets/SMAJ.pdf; ComponentLink2Description: Digi-Key Listing; ComponentLink2URL: https://www.digikey.com/product-detail/en/bourns-inc/SMAJ28CA/SMAJ28CABTR-ND/2254621; Operating Temperature: -55C ~ 150C (TJ); Price: 0.0992; Device Package: DO-214AC, SMA
footprint Bourns DO214AC SMA
pins: 1, 2

## SMAJ30A
designator D?
TVS DIODE 30VWM 48.4VC DO214AC; Manufacturer: Bourns Inc.; Type: Zener; Unidirectional Channels: 1; Power - Peak Pulse: 400W; Current - Peak Pulse: 8.3A; Voltage (Clamping): 48.4V; Voltage (Breakdown): 33.3V; Voltage (Reverse Standoff): 30V; Part Number: SMAJ30A; PartId: 14880; Supplier 1: Digi-Key; Supplier Part Number 1: SMAJ30ABTR-ND; ComponentLink1Description: Datasheet; ComponentLink1URL: http://www.bourns.com/docs/Product-Datasheets/SMAJ.pdf; ComponentLink2Description: Digi-Key Listing; ComponentLink2URL: https://www.digikey.com/product-detail/en/bourns-inc/SMAJ30A/SMAJ30ABTR-ND/2254222; Operating Temperature: -55C ~ 150C (TJ); Price: 0.0928; Device Package: DO-214AC, SMA
footprint Bourns DO214AC SMA
pins: 1, 2

## SMAJ30A-TR
designator D?
TVS DIODE 30VWM 64.3VC SMA; Manufacturer: STMicroelectronics; Type: Zener; Unidirectional Channels: 1; Power - Peak Pulse: 400W; Current - Peak Pulse: 36A (8/20us); Voltage (Clamping): 64.3V; Voltage (Breakdown): 33.3V; Voltage (Reverse Standoff): 30V; Part Number: SMAJ30A-TR; PartId: 14911; Supplier 1: Digi-Key; Supplier Part Number 1: 497-12778-2-ND; ComponentLink1Description: Datasheet; ComponentLink1URL: http://www2.st.com/content/ccc/resource/technical/document/datasheet/ff/c0/80/cc/19/4c/45/af/CD00001333.pdf/files/CD00001333.pdf/_jcr_content/translations/en.CD00001333.pdf; ComponentLink2Description: Digi-Key Listing; ComponentLink2URL: https://www.digikey.com/product-detail/en/stmicroelectronics/SMAJ30A-TR/497-12778-2-ND/1039115; Operating Temperature: -55C ~ 150C (TJ); Price: 0.0782; Device Package: DO-214AC, SMA
footprint ST DO214AC SMA
pins: 1, 2

## SMAJ30CA
designator D?
TVS DIODE 30VWM 48.4VC DO214AC; Manufacturer: Bourns Inc.; Type: Zener; Bidirectional Channels: 1; Power - Peak Pulse: 400W; Current - Peak Pulse: 8.3A; Voltage (Clamping): 48.4V; Voltage (Breakdown): 33.3V; Voltage (Reverse Standoff): 30V; Part Number: SMAJ30CA; PartId: 14855; Supplier 1: Digi-Key; Supplier Part Number 1: SMAJ30CABTR-ND; ComponentLink1Description: Datasheet; ComponentLink1URL: http://www.bourns.com/docs/Product-Datasheets/SMAJ.pdf; ComponentLink2Description: Digi-Key Listing; ComponentLink2URL: https://www.digikey.com/product-detail/en/bourns-inc/SMAJ30CA/SMAJ30CABTR-ND/2254220; Operating Temperature: -55C ~ 150C (TJ); Price: 0.0992; Device Package: DO-214AC, SMA
footprint Bourns DO214AC SMA
pins: 1, 2

## SMAJ30CA-TR
designator D?
TVS DIODE 30VWM 64.3VC SMA; Manufacturer: STMicroelectronics; Type: Zener; Bidirectional Channels: 1; Power - Peak Pulse: 400W; Current - Peak Pulse: 36A (8/20us); Voltage (Clamping): 64.3V; Voltage (Breakdown): 33.3V; Voltage (Reverse Standoff): 30V; Part Number: SMAJ30CA-TR; PartId: 14940; Supplier 1: Digi-Key; Supplier Part Number 1: 497-7447-2-ND; ComponentLink1Description: Datasheet; ComponentLink1URL: http://www2.st.com/content/ccc/resource/technical/document/datasheet/ff/c0/80/cc/19/4c/45/af/CD00001333.pdf/files/CD00001333.pdf/_jcr_content/translations/en.CD00001333.pdf; ComponentLink2Description: Digi-Key Listing; ComponentLink2URL: https://www.digikey.com/product-detail/en/stmicroelectronics/SMAJ30CA-TR/497-7447-2-ND/1039116; Operating Temperature: -55C ~ 150C (TJ); Price: 0.0833; Device Package: DO-214AC, SMA
footprint ST DO214AC SMA
pins: 1, 2

## SMAJ33A
designator D?
TVS DIODE 33VWM 53.3VC DO214AC; Manufacturer: Bourns Inc.; Type: Zener; Unidirectional Channels: 1; Power - Peak Pulse: 400W; Current - Peak Pulse: 7.5A; Voltage (Clamping): 53.3V; Voltage (Breakdown): 36.7V; Voltage (Reverse Standoff): 33V; Part Number: SMAJ33A; PartId: 14887; Supplier 1: Digi-Key; Supplier Part Number 1: SMAJ33ABTR-ND; ComponentLink1Description: Datasheet; ComponentLink1URL: http://www.bourns.com/docs/Product-Datasheets/SMAJ.pdf; ComponentLink2Description: Digi-Key Listing; ComponentLink2URL: https://www.digikey.com/product-detail/en/bourns-inc/SMAJ33A/SMAJ33ABTR-ND/2254211; Operating Temperature: -55C ~ 150C (TJ); Price: 0.0928; Device Package: DO-214AC, SMA
footprint Bourns DO214AC SMA
pins: 1, 2

## SMAJ33A-TR
designator D?
TVS DIODE 33VWM 69.7VC SMA; Manufacturer: STMicroelectronics; Type: Zener; Unidirectional Channels: 1; Power - Peak Pulse: 400W; Current - Peak Pulse: 33A (8/20us); Voltage (Clamping): 69.7V; Voltage (Breakdown): 36.7V; Voltage (Reverse Standoff): 33V; Part Number: SMAJ33A-TR; PartId: 14916; Supplier 1: Digi-Key; Supplier Part Number 1: 497-7448-2-ND; ComponentLink1Description: Datasheet; ComponentLink1URL: http://www2.st.com/content/ccc/resource/technical/document/datasheet/ff/c0/80/cc/19/4c/45/af/CD00001333.pdf/files/CD00001333.pdf/_jcr_content/translations/en.CD00001333.pdf; ComponentLink2Description: Digi-Key Listing; ComponentLink2URL: https://www.digikey.com/product-detail/en/stmicroelectronics/SMAJ33A-TR/497-7448-2-ND/1039117; Operating Temperature: -55C ~ 150C (TJ); Price: 0.0799; Device Package: DO-214AC, SMA
footprint ST DO214AC SMA
pins: 1, 2

## SMAJ33CA
designator D?
TVS DIODE 33VWM 53.3VC DO214AC; Manufacturer: Bourns Inc.; Type: Zener; Bidirectional Channels: 1; Power - Peak Pulse: 400W; Current - Peak Pulse: 7.5A; Voltage (Clamping): 53.3V; Voltage (Breakdown): 36.7V; Voltage (Reverse Standoff): 33V; Part Number: SMAJ33CA; PartId: 14849; Supplier 1: Digi-Key; Supplier Part Number 1: SMAJ33CABTR-ND; ComponentLink1Description: Datasheet; ComponentLink1URL: http://www.bourns.com/docs/Product-Datasheets/SMAJ.pdf; ComponentLink2Description: Digi-Key Listing; ComponentLink2URL: https://www.digikey.com/product-detail/en/bourns-inc/SMAJ33CA/SMAJ33CABTR-ND/2254219; Operating Temperature: -55C ~ 150C (TJ); Price: 0.0992; Device Package: DO-214AC, SMA
footprint Bourns DO214AC SMA
pins: 1, 2

## SMAJ33CA-TR
designator D?
TVS DIODE 33VWM 69.7VC DO214AC; Manufacturer: STMicroelectronics; Type: Zener; Bidirectional Channels: 1; Power - Peak Pulse: 400W; Current - Peak Pulse: 33A (8/20us); Voltage (Clamping): 69.7V; Voltage (Breakdown): 36.7V; Voltage (Reverse Standoff): 33V; Part Number: SMAJ33CA-TR; PartId: 14935; Supplier 1: Digi-Key; Supplier Part Number 1: 497-2998-2-ND; ComponentLink1Description: Datasheet; ComponentLink1URL: http://www2.st.com/content/ccc/resource/technical/document/datasheet/ff/c0/80/cc/19/4c/45/af/CD00001333.pdf/files/CD00001333.pdf/_jcr_content/translations/en.CD00001333.pdf; ComponentLink2Description: Digi-Key Listing; ComponentLink2URL: https://www.digikey.com/product-detail/en/stmicroelectronics/SMAJ33CA-TR/497-2998-2-ND/634762; Operating Temperature: -55C ~ 150C (TJ); Price: 0.0833; Device Package: DO-214AC, SMA
footprint ST DO214AC SMA
pins: 1, 2

## SMAJ36A
designator D?
TVS DIODE 36VWM 58.1VC DO214AC; Manufacturer: Bourns Inc.; Type: Zener; Unidirectional Channels: 1; Power - Peak Pulse: 400W; Current - Peak Pulse: 6.9A; Voltage (Clamping): 58.1V; Voltage (Breakdown): 40V; Voltage (Reverse Standoff): 36V; Part Number: SMAJ36A; PartId: 14894; Supplier 1: Digi-Key; Supplier Part Number 1: SMAJ36ABTR-ND; ComponentLink1Description: Datasheet; ComponentLink1URL: http://www.bourns.com/docs/Product-Datasheets/SMAJ.pdf; ComponentLink2Description: Digi-Key Listing; ComponentLink2URL: https://www.digikey.com/product-detail/en/bourns-inc/SMAJ36A/SMAJ36ABTR-ND/2254229; Operating Temperature: -55C ~ 150C (TJ); Price: 0.0928; Device Package: DO-214AC, SMA
footprint Bourns DO214AC SMA
pins: 1, 2

## SMAJ36CA
designator D?
TVS DIODE 36VWM 58.1VC DO214AC; Manufacturer: Bourns Inc.; Type: Zener; Bidirectional Channels: 1; Power - Peak Pulse: 400W; Current - Peak Pulse: 6.9A; Voltage (Clamping): 58.1V; Voltage (Breakdown): 40V; Voltage (Reverse Standoff): 36V; Part Number: SMAJ36CA; PartId: 14838; Supplier 1: Digi-Key; Supplier Part Number 1: SMAJ36CABTR-ND; ComponentLink1Description: Datasheet; ComponentLink1URL: http://www.bourns.com/docs/Product-Datasheets/SMAJ.pdf; ComponentLink2Description: Digi-Key Listing; ComponentLink2URL: https://www.digikey.com/product-detail/en/bourns-inc/SMAJ36CA/SMAJ36CABTR-ND/2254607; Operating Temperature: -55C ~ 150C (TJ); Price: 0.0992; Device Package: DO-214AC, SMA
footprint Bourns DO214AC SMA
pins: 1, 2